# EAGLE library part LM393 (library FaBo-Opamp)
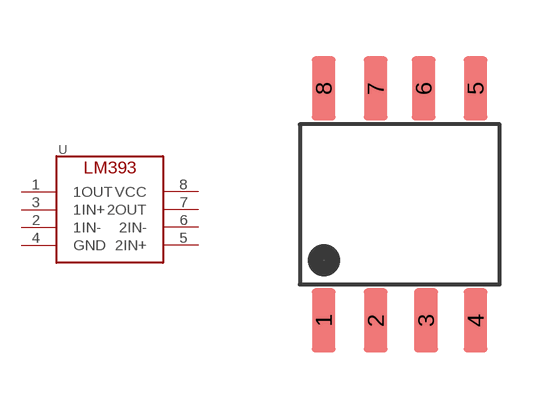
[diagram p2: symbol with the pads of SOIC(NARROW)-8; footprint SOIC(NARROW)-8]

Designator prefix U

## LM393  [SOIC(NARROW)-8]
1  1OUT
2  1IN-
3  1IN+
4  GND
5  2IN+
6  2IN-
7  2OUT
8  VCC

## Footprint SOIC(NARROW)-8 (pad centres in mm)
smd 0.6 x 1.6: 1 -1.9,-2.9; 2 -0.6,-2.9; 3 0.66,-2.9; 4 1.9,-2.9; 5 1.9,2.9; 6 0.6,2.9; 7 -0.6,2.9; 8 -1.9,2.9